# Altium footprint library NRF51822_breakout.PcbLib: 1 footprints
Each footprint in its own frame and in the unit in brackets; x right, y up, seen from the top. Pads: shape width x height; smd on the part's side, far side on the other; paste and mask are expansions set on the pad; w line width, h text height; cw(c..) or ccw(c..) is an arc to the next point about the centre after c.
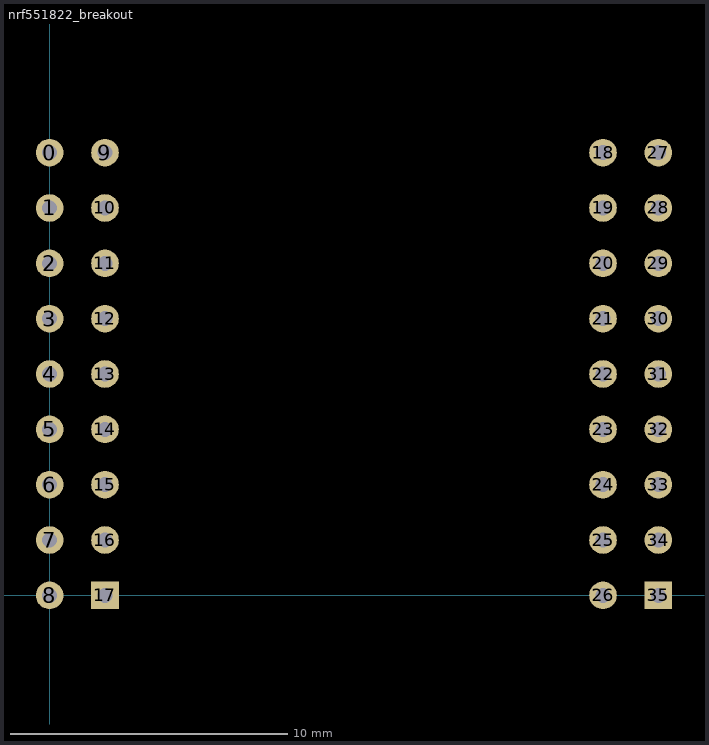
[diagram p0: the footprint, top view; thin cyan lines are the x and y axes]

## nrf551822_breakout [mm]
height 2
pads (36):
  round 1 hole 0.54: 0(0,16) 1(0,14) 2(0,12) 3(0,10) 4(0,8) 5(0,6) 6(0,4) 7(0,2) 8(0,0) 9(2,16) 10(2,14) 11(2,12) 12(2,10) 13(2,8) 14(2,6) 15(2,4) 16(2,2) 18(20,16) 19(20,14) 20(20,12) 21(20,10) 22(20,8) 23(20,6) 24(20,4) 25(20,2) 26(20,0) 27(22,16) 28(22,14) 29(22,12) 30(22,10) 31(22,8) 32(22,6) 33(22,4) 34(22,2)
  rect 1x1 hole 0.54: 17(2,0) 35(22,0)